# Altium schematic symbol library Ind_Bourns_SRN6045-6R8Y_eec.SchLib: 1 symbol
Pins are listed as number, name and electrical type; pins without a type are passive.

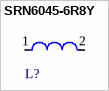
[diagram p0: symbol SRN6045-6R8Y]

## SRN6045-6R8Y
designator L?  (value not drawn)
pins: 1, 2